# Altium footprint library Delta_Power_supply.PcbLib: 1 footprints
Each footprint in its own frame and in the unit in brackets; x right, y up, seen from the top. Pads: shape width x height; smd on the part's side, far side on the other; paste and mask are expansions set on the pad; w line width, h text height; cw(c..) or ccw(c..) is an arc to the next point about the centre after c.
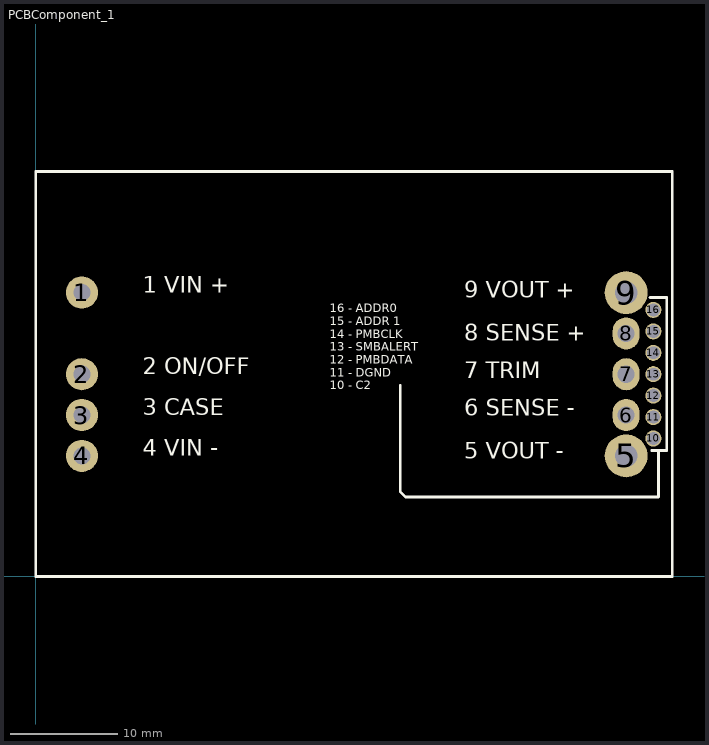
[diagram p0: the footprint, top view; thin cyan lines are the x and y axes]

## PCBComponent_1 [mm]
pads (16):
  round 3 hole 1.6: 1(4.3,26.5) 2(4.3,18.88) 3(4.3,15.07) 4(4.3,11.26)
  round 4 hole 2.1: 5(55.1,11.26) 9(55.1,26.5)
  oval 2.5x3 hole 1.6: 6(55.1,15.07) 7(55.1,18.88) 8(55.1,22.69)
  round 1.5 hole 1.2: 10(57.64,12.88) 11(57.64,14.88) 12(57.64,16.88) 13(57.64,18.88) 14(57.64,20.88) 15(57.64,22.88) 16(57.64,24.88)
Top Overlay:
  lines w0.254: 34.01,17.82 34.01,7.92 34.52,7.41 58.12,7.41 58.12,11.75 ; 57.32,26.05 58.9,26.05 58.9,11.75 57.5,11.75 ; 59.3,37.8 59.4,37.7 ; 0,0 59.4,0 59.4,37.8 0,37.8 0,0
  text "9 VOUT +" at 40,26 h1.52
  text "8 SENSE +" at 40,22 h1.52
  text "7 TRIM" at 40,18.5 h1.52
  text "6 SENSE -" at 40,15 h1.52
  text "5 VOUT -" at 40,11 h1.52
  text "4 VIN -" at 10,11.26 h1.52
  text "3 CASE" at 10,15.07 h1.52
  text "2 ON/OFF" at 10,18.88 h1.52
  text "1 VIN +" at 10,26.5 h1.52
  text "16 - ADDR0 / 15 - ADDR 1 / 14 - PMBCLK / 13 - SMBALERT / 12 - PMBDATA / 11 - DGND / 10 - C2" at 27.45,17.46 h0.8